# EAGLE library part LM339N (library user_ic)
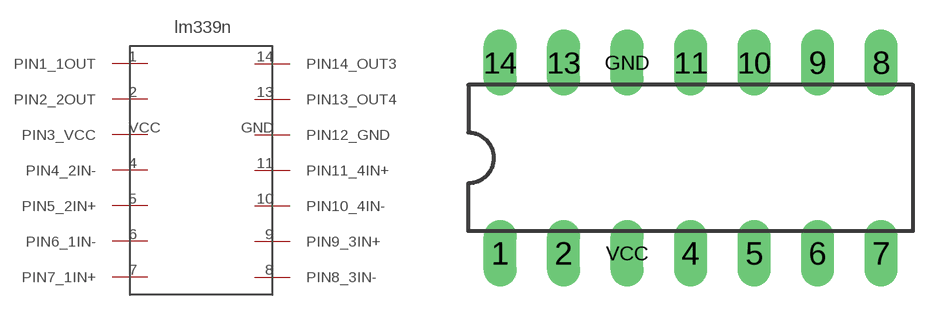
[diagram p4: symbol with the pads of LM339N; footprint LM339N]

Designator prefix -

## LM339N  [LM339N]
1  PIN1_1OUT
2  PIN2_2OUT
4  PIN4_2IN-
5  PIN5_2IN+
6  PIN6_1IN-
7  PIN7_1IN+
8  PIN8_3IN-
9  PIN9_3IN+
10  PIN10_4IN-
11  PIN11_4IN+
13  PIN13_OUT4
14  PIN14_OUT3
GND  PIN12_GND
VCC  PIN3_VCC

## Footprint LM339N (pad centres in mm)
Dual In Line Package
drill 0.813 long: 1 -7.62,-3.81; 2 -5.08,-3.81; 4 0,-3.81; 5 2.54,-3.81; 6 5.08,-3.81; 7 7.62,-3.81; 8 7.62,3.81; 9 5.08,3.81; 10 2.54,3.81; 11 0,3.81; 13 -5.08,3.81; 14 -7.62,3.81; GND -2.54,3.81; VCC -2.54,-3.81